# Altium integrated library Linear Technology Power Management uModule Regulators.IntLib: 166 symbols (part 2 of 67)
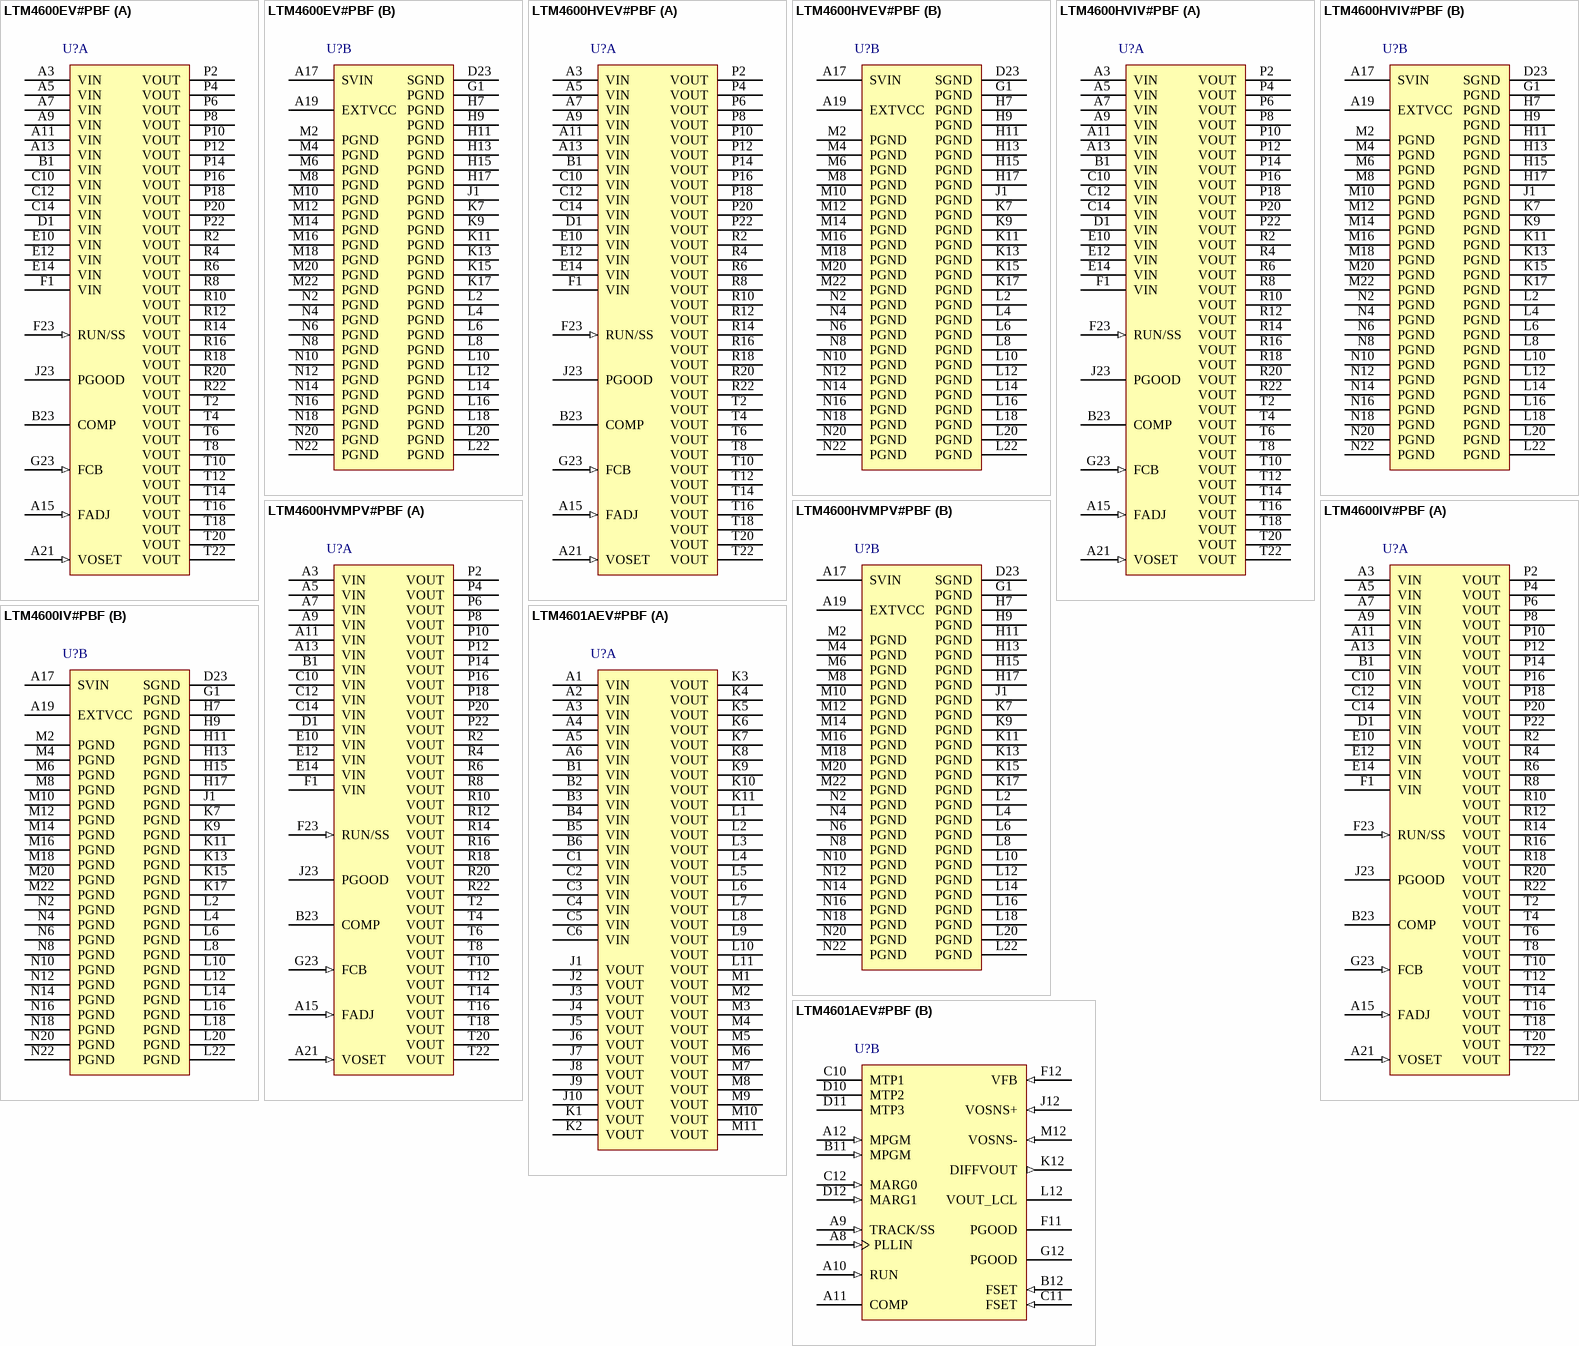
[diagram p28: symbols LTM4600EV#PBF to LTM4601AEV#PBF]

## LTM4600HVMPV#PBF
designator U?
10 A, 28 VIN High Efficiency DC/DC uModule, 104-pin LGA, -55 to 125 degC, Pb-Free; Manufacturer: Linear Technology; PartNumber: LTM4600HVMPV#PBF; Extended Temp: E, I, MP; Frequency(kHz): 850; Ishutdown(uA): 35; Isupply(mA): 1.2; Number of Outputs: 1; Output Current(A): 10; Switch Current(A): 14; Synchronous: yes; Topology: Buck; Tracking: no; Vin Max(V): 28; Vin Min(V): 4.5; Vout Max(V): 5; Vout Min(V): 0.6; DatasheetVersion: Rev. C; PackageVersion: Rev. C, 01/2013; PackageReference: LGA-104; PackageDescription: 104-Pin LGA, Body 15 x 15 mm, Pitch 1.27 mm; Supplier 1: Digi-Key; Supplier Part Number 1: LTM4600HVMPV#PBF-ND; Supplier 2: Farnell; Supplier Part Number 2: 1710864; Supplier 3: Newark; Supplier Part Number 3: 57M0653; RoHS: TRUE; Mounting Technology: Surface Mount; Code_JEDEC: MO-222; ComponentLink1Description: Manufacturer URL; ComponentLink1URL: http://www.linear.com/; ComponentLink2Description: Datasheet; ComponentLink2URL: http://cds.linear.com/docs/en/datasheet/4600hvfc.pdf; ComponentLink3Description: Package Specification; ComponentLink3URL: http://cds.linear.com/docs/en/packaging/05051800_C_lga104.pdf
footprint LT-LGA-104-15000X15000_V (LGA, 104-Leads, Body 15x15mm)
part A pins: A3 VIN (power) "Power Input Pins. Apply input voltage between these pins and GND pins. Recommend placing input decoupling capacitance directly between VIN pins and GND pins.", A5 VIN (power) "Power Input Pins. Apply input voltage between these pins and GND pins. Recommend placing input decoupling capacitance directly between VIN pins and GND pins.", A7 VIN (power) "Power Input Pins. Apply input voltage between these pins and GND pins. Recommend placing input decoupling capacitance directly between VIN pins and GND pins.", A9 VIN (power) "Power Input Pins. Apply input voltage between these pins and GND pins. Recommend placing input decoupling capacitance directly between VIN pins and GND pins.", A11 VIN (power) "Power Input Pins. Apply input voltage between these pins and GND pins. Recommend placing input decoupling capacitance directly between VIN pins and GND pins.", A13 VIN (power) "Power Input Pins. Apply input voltage between these pins and GND pins. Recommend placing input decoupling capacitance directly between VIN pins and GND pins.", A15 FADJ (in) "A 110k resistor from VIN to this pin sets the one-shot timer current, thereby setting the switching frequency. The LTM4600HV switching frequency is typically 850kHz. An external resistor to ground can be selected to reduce (See Datasheet)", A21 VOSET (in) "The Negative Input of The Error Amplifier. Internally, this pin is connected to VOUT with a 100k precision resistor. Different output voltages can be programmed with additional resistors between the VOSET and SGND pins.", B1 VIN (power) "Power Input Pins. Apply input voltage between these pins and GND pins. Recommend placing input decoupling capacitance directly between VIN pins and GND pins.", B23 COMP "Current Control Threshold and Error Amplifier Compensation Point. The current comparator threshold increases with this control voltage. The voltage ranges from 0V to 2.4V with 0.8V corresponding to zero sense voltage (zero (See Datasheet)", C10 VIN (power) "Power Input Pins. Apply input voltage between these pins and GND pins. Recommend placing input decoupling capacitance directly between VIN pins and GND pins.", C12 VIN (power) "Power Input Pins. Apply input voltage between these pins and GND pins. Recommend placing input decoupling capacitance directly between VIN pins and GND pins.", C14 VIN (power) "Power Input Pins. Apply input voltage between these pins and GND pins. Recommend placing input decoupling capacitance directly between VIN pins and GND pins.", D1 VIN (power) "Power Input Pins. Apply input voltage between these pins and GND pins. Recommend placing input decoupling capacitance directly between VIN pins and GND pins.", E10 VIN (power) "Power Input Pins. Apply input voltage between these pins and GND pins. Recommend placing input decoupling capacitance directly between VIN pins and GND pins.", E12 VIN (power) "Power Input Pins. Apply input voltage between these pins and GND pins. Recommend placing input decoupling capacitance directly between VIN pins and GND pins.", E14 VIN (power) "Power Input Pins. Apply input voltage between these pins and GND pins. Recommend placing input decoupling capacitance directly between VIN pins and GND pins.", F1 VIN (power) "Power Input Pins. Apply input voltage between these pins and GND pins. Recommend placing input decoupling capacitance directly between VIN pins and GND pins.", F23 RUN/SS (in) "Run and Soft-Start Control. Forcing this pin below 0.8V will shut down the power supply. Inside the power module, there is a 1000pF capacitor which provides approximately 0.7ms soft-start time with 200uF output capacitance. (See Datasheet)", G23 FCB (in) "Forced Continuous Input. Grounding this pin enables forced continuous mode operation regardless of load conditions. Tying this pin above 0.63V enables discontinuous conduction mode to achieve high efficiency operation at (See Datasheet)", J23 PGOOD (oc) "Output Voltage Power Good Indicator. When the output voltage is within 10% of the nominal voltage, the PGOOD is open drain output. Otherwise, this pin is pulled to ground.", P2 VOUT (power) "Power Output Pins. Apply output load between these pins and GND pins. Recommend placing High Frequency output decoupling capacitance directly between these pins and GND pins", P4 VOUT (power) "Power Output Pins. Apply output load between these pins and GND pins. Recommend placing High Frequency output decoupling capacitance directly between these pins and GND pins", P6 VOUT (power) "Power Output Pins. Apply output load between these pins and GND pins. Recommend placing High Frequency output decoupling capacitance directly between these pins and GND pins", P8 VOUT (power) "Power Output Pins. Apply output load between these pins and GND pins. Recommend placing High Frequency output decoupling capacitance directly between these pins and GND pins", P10 VOUT (power) "Power Output Pins. Apply output load between these pins and GND pins. Recommend placing High Frequency output decoupling capacitance directly between these pins and GND pins", P12 VOUT (power) "Power Output Pins. Apply output load between these pins and GND pins. Recommend placing High Frequency output decoupling capacitance directly between these pins and GND pins", P14 VOUT (power) "Power Output Pins. Apply output load between these pins and GND pins. Recommend placing High Frequency output decoupling capacitance directly between these pins and GND pins", P16 VOUT (power) "Power Output Pins. Apply output load between these pins and GND pins. Recommend placing High Frequency output decoupling capacitance directly between these pins and GND pins", P18 VOUT (power) "Power Output Pins. Apply output load between these pins and GND pins. Recommend placing High Frequency output decoupling capacitance directly between these pins and GND pins", P20 VOUT (power) "Power Output Pins. Apply output load between these pins and GND pins. Recommend placing High Frequency output decoupling capacitance directly between these pins and GND pins", P22 VOUT (power) "Power Output Pins. Apply output load between these pins and GND pins. Recommend placing High Frequency output decoupling capacitance directly between these pins and GND pins", R2 VOUT (power) "Power Output Pins. Apply output load between these pins and GND pins. Recommend placing High Frequency output decoupling capacitance directly between these pins and GND pins", R4 VOUT (power) "Power Output Pins. Apply output load between these pins and GND pins. Recommend placing High Frequency output decoupling capacitance directly between these pins and GND pins", R6 VOUT (power) "Power Output Pins. Apply output load between these pins and GND pins. Recommend placing High Frequency output decoupling capacitance directly between these pins and GND pins", R8 VOUT (power) "Power Output Pins. Apply output load between these pins and GND pins. Recommend placing High Frequency output decoupling capacitance directly between these pins and GND pins", R10 VOUT (power) "Power Output Pins. Apply output load between these pins and GND pins. Recommend placing High Frequency output decoupling capacitance directly between these pins and GND pins", R12 VOUT (power) "Power Output Pins. Apply output load between these pins and GND pins. Recommend placing High Frequency output decoupling capacitance directly between these pins and GND pins", R14 VOUT (power) "Power Output Pins. Apply output load between these pins and GND pins. Recommend placing High Frequency output decoupling capacitance directly between these pins and GND pins", R16 VOUT (power) "Power Output Pins. Apply output load between these pins and GND pins. Recommend placing High Frequency output decoupling capacitance directly between these pins and GND pins", R18 VOUT (power) "Power Output Pins. Apply output load between these pins and GND pins. Recommend placing High Frequency output decoupling capacitance directly between these pins and GND pins", R20 VOUT (power) "Power Output Pins. Apply output load between these pins and GND pins. Recommend placing High Frequency output decoupling capacitance directly between these pins and GND pins", R22 VOUT (power) "Power Output Pins. Apply output load between these pins and GND pins. Recommend placing High Frequency output decoupling capacitance directly between these pins and GND pins", T2 VOUT (power) "Power Output Pins. Apply output load between these pins and GND pins. Recommend placing High Frequency output decoupling capacitance directly between these pins and GND pins", T4 VOUT (power) "Power Output Pins. Apply output load between these pins and GND pins. Recommend placing High Frequency output decoupling capacitance directly between these pins and GND pins", T6 VOUT (power) "Power Output Pins. Apply output load between these pins and GND pins. Recommend placing High Frequency output decoupling capacitance directly between these pins and GND pins", T8 VOUT (power) "Power Output Pins. Apply output load between these pins and GND pins. Recommend placing High Frequency output decoupling capacitance directly between these pins and GND pins", T10 VOUT (power) "Power Output Pins. Apply output load between these pins and GND pins. Recommend placing High Frequency output decoupling capacitance directly between these pins and GND pins", T12 VOUT (power) "Power Output Pins. Apply output load between these pins and GND pins. Recommend placing High Frequency output decoupling capacitance directly between these pins and GND pins", T14 VOUT (power) "Power Output Pins. Apply output load between these pins and GND pins. Recommend placing High Frequency output decoupling capacitance directly between these pins and GND pins", T16 VOUT (power) "Power Output Pins. Apply output load between these pins and GND pins. Recommend placing High Frequency output decoupling capacitance directly between these pins and GND pins", T18 VOUT (power) "Power Output Pins. Apply output load between these pins and GND pins. Recommend placing High Frequency output decoupling capacitance directly between these pins and GND pins", T20 VOUT (power) "Power Output Pins. Apply output load between these pins and GND pins. Recommend placing High Frequency output decoupling capacitance directly between these pins and GND pins", T22 VOUT (power) "Power Output Pins. Apply output load between these pins and GND pins. Recommend placing High Frequency output decoupling capacitance directly between these pins and GND pins"
part B pins: A17 SVIN (power) "Supply Pin for Internal PWM Controller. Leave this pin open or add additional decoupling capacitance.", A19 EXTVCC (power) "External 5V supply pin for controller. If left open or grounded, the internal 5V linear regulator will power the controller and MOSFET drivers. For high input voltage applications, connecting this pin to an external 5V will (See Datasheet)", D23 SGND (power) "Signal Ground Pin. All small-signal components should connect to this ground, which in turn connects to PGND at one point.", G1 PGND (power) "Power ground pins for both input and output returns.", H7 PGND (power) "Power ground pins for both input and output returns.", H9 PGND (power) "Power ground pins for both input and output returns.", H11 PGND (power) "Power ground pins for both input and output returns.", H13 PGND (power) "Power ground pins for both input and output returns.", H15 PGND (power) "Power ground pins for both input and output returns.", H17 PGND (power) "Power ground pins for both input and output returns.", J1 PGND (power) "Power ground pins for both input and output returns.", K7 PGND (power) "Power ground pins for both input and output returns.", K9 PGND (power) "Power ground pins for both input and output returns.", K11 PGND (power) "Power ground pins for both input and output returns.", K13 PGND (power) "Power ground pins for both input and output returns.", K15 PGND (power) "Power ground pins for both input and output returns.", K17 PGND (power) "Power ground pins for both input and output returns.", L2 PGND (power) "Power ground pins for both input and output returns.", L4 PGND (power) "Power ground pins for both input and output returns.", L6 PGND (power) "Power ground pins for both input and output returns.", L8 PGND (power) "Power ground pins for both input and output returns.", L10 PGND (power) "Power ground pins for both input and output returns.", L12 PGND (power) "Power ground pins for both input and output returns.", L14 PGND (power) "Power ground pins for both input and output returns.", L16 PGND (power) "Power ground pins for both input and output returns.", L18 PGND (power) "Power ground pins for both input and output returns.", L20 PGND (power) "Power ground pins for both input and output returns.", L22 PGND (power) "Power ground pins for both input and output returns.", M2 PGND (power) "Power ground pins for both input and output returns.", M4 PGND (power) "Power ground pins for both input and output returns.", M6 PGND (power) "Power ground pins for both input and output returns.", M8 PGND (power) "Power ground pins for both input and output returns.", M10 PGND (power) "Power ground pins for both input and output returns.", M12 PGND (power) "Power ground pins for both input and output returns.", M14 PGND (power) "Power ground pins for both input and output returns.", M16 PGND (power) "Power ground pins for both input and output returns.", M18 PGND (power) "Power ground pins for both input and output returns.", M20 PGND (power) "Power ground pins for both input and output returns.", M22 PGND (power) "Power ground pins for both input and output returns.", N2 PGND (power) "Power ground pins for both input and output returns.", N4 PGND (power) "Power ground pins for both input and output returns.", N6 PGND (power) "Power ground pins for both input and output returns.", N8 PGND (power) "Power ground pins for both input and output returns.", N10 PGND (power) "Power ground pins for both input and output returns.", N12 PGND (power) "Power ground pins for both input and output returns.", N14 PGND (power) "Power ground pins for both input and output returns.", N16 PGND (power) "Power ground pins for both input and output returns.", N18 PGND (power) "Power ground pins for both input and output returns.", N20 PGND (power) "Power ground pins for both input and output returns.", N22 PGND (power) "Power ground pins for both input and output returns."

## LTM4600IV#PBF
designator U?
10 A High Efficiency DC/DC uModule, 104-pin LGA, -40 to 85 degC, Pb-Free; Manufacturer: Linear Technology; PartNumber: LTM4600IV#PBF; Extended Temp: E, I; Frequency(kHz): 800; Ishutdown(uA): 35; Isupply(mA): 1.2; Number of Outputs: 1; Output Current(A): 10; Switch Current(A): 14; Synchronous: yes; Topology: Buck; Tracking: no; Vin Max(V): 20; Vin Min(V): 4.5; Vout Max(V): 5; Vout Min(V): 0.6; DatasheetVersion: Rev. C; PackageVersion: Rev. C, 01/2013; PackageReference: LGA-104; PackageDescription: 104-Pin LGA, Body 15 x 15 mm, Pitch 1.27 mm; Supplier 1: Digi-Key; Supplier Part Number 1: LTM4600IV#PBF-ND; Supplier 2: Newark; Supplier Part Number 2: 57M0654; RoHS: TRUE; Mounting Technology: Surface Mount; Code_JEDEC: MO-222; ComponentLink1Description: Manufacturer URL; ComponentLink1URL: http://www.linear.com/; ComponentLink2Description: Datasheet; ComponentLink2URL: http://cds.linear.com/docs/en/datasheet/4600fc.pdf; ComponentLink3Description: Package Specification; ComponentLink3URL: http://cds.linear.com/docs/en/packaging/05051800_C_lga104.pdf
footprint LT-LGA-104-15000X15000_V (LGA, 104-Leads, Body 15x15mm)
part A pins: A3 VIN (power) "Power Input Pins. Apply input voltage between these pins and PGND pins. Recommend placing input decoupling capacitance directly between VIN pins and PGND pins.", A5 VIN (power) "Power Input Pins. Apply input voltage between these pins and PGND pins. Recommend placing input decoupling capacitance directly between VIN pins and PGND pins.", A7 VIN (power) "Power Input Pins. Apply input voltage between these pins and PGND pins. Recommend placing input decoupling capacitance directly between VIN pins and PGND pins.", A9 VIN (power) "Power Input Pins. Apply input voltage between these pins and PGND pins. Recommend placing input decoupling capacitance directly between VIN pins and PGND pins.", A11 VIN (power) "Power Input Pins. Apply input voltage between these pins and PGND pins. Recommend placing input decoupling capacitance directly between VIN pins and PGND pins.", A13 VIN (power) "Power Input Pins. Apply input voltage between these pins and PGND pins. Recommend placing input decoupling capacitance directly between VIN pins and PGND pins.", A15 FADJ (in) "A 110k resistor from VIN to this pin sets the one-shot timer current, thereby setting the switching frequency. The LTM4600 switching frequency is typically 850kHz. An external resistor to ground can be selected to reduce the (See Datasheet)", A21 VOSET (in) "The Negative Input of The Error Amplifier. Internally, this pin is connected to VOUT with a 100k precision resistor. Different output voltages can be programmed with additional resistors between the VOSET and SGND pins.", B1 VIN (power) "Power Input Pins. Apply input voltage between these pins and PGND pins. Recommend placing input decoupling capacitance directly between VIN pins and PGND pins.", B23 COMP "Current Control Threshold and Error Amplifier Compensation Point. The current comparator threshold increases with this control voltage. The voltage ranges from 0V to 2.4V with 0.8V corresponding to zero sense voltage (zero (See Datasheet)", C10 VIN (power) "Power Input Pins. Apply input voltage between these pins and PGND pins. Recommend placing input decoupling capacitance directly between VIN pins and PGND pins.", C12 VIN (power) "Power Input Pins. Apply input voltage between these pins and PGND pins. Recommend placing input decoupling capacitance directly between VIN pins and PGND pins.", C14 VIN (power) "Power Input Pins. Apply input voltage between these pins and PGND pins. Recommend placing input decoupling capacitance directly between VIN pins and PGND pins.", D1 VIN (power) "Power Input Pins. Apply input voltage between these pins and PGND pins. Recommend placing input decoupling capacitance directly between VIN pins and PGND pins.", E10 VIN (power) "Power Input Pins. Apply input voltage between these pins and PGND pins. Recommend placing input decoupling capacitance directly between VIN pins and PGND pins.", E12 VIN (power) "Power Input Pins. Apply input voltage between these pins and PGND pins. Recommend placing input decoupling capacitance directly between VIN pins and PGND pins.", E14 VIN (power) "Power Input Pins. Apply input voltage between these pins and PGND pins. Recommend placing input decoupling capacitance directly between VIN pins and PGND pins.", F1 VIN (power) "Power Input Pins. Apply input voltage between these pins and PGND pins. Recommend placing input decoupling capacitance directly between VIN pins and PGND pins.", F23 RUN/SS (in) "Run and Soft-Start Control. Forcing this pin below 0.8V will shut down the power supply. Inside the power module, there is a 1000pF capacitor which provides approximately 0.7ms soft-start time with 200uF output capacitance. (See Datasheet)", G23 FCB (in) "Forced Continuous Input. Grounding this pin enables forced continuous mode operation regardless of load conditions. Tying this pin above 0.63V enables discontinuous conduction mode to achieve high efficiency operation at (See Datasheet)", J23 PGOOD (oc) "Output Voltage Power Good Indicator. When the output voltage is within 10% of the nominal voltage, the PGOOD is open drain output. Otherwise, this pin is pulled to ground.", P2 VOUT (power) "Power Output Pins. Apply output load between these pins and PGND pins. Recommend placing High Frequency output decoupling capacitance directly between these pins and PGND pins.", P4 VOUT (power) "Power Output Pins. Apply output load between these pins and PGND pins. Recommend placing High Frequency output decoupling capacitance directly between these pins and PGND pins.", P6 VOUT (power) "Power Output Pins. Apply output load between these pins and PGND pins. Recommend placing High Frequency output decoupling capacitance directly between these pins and PGND pins.", P8 VOUT (power) "Power Output Pins. Apply output load between these pins and PGND pins. Recommend placing High Frequency output decoupling capacitance directly between these pins and PGND pins.", P10 VOUT (power) "Power Output Pins. Apply output load between these pins and PGND pins. Recommend placing High Frequency output decoupling capacitance directly between these pins and PGND pins.", P12 VOUT (power) "Power Output Pins. Apply output load between these pins and PGND pins. Recommend placing High Frequency output decoupling capacitance directly between these pins and PGND pins.", P14 VOUT (power) "Power Output Pins. Apply output load between these pins and PGND pins. Recommend placing High Frequency output decoupling capacitance directly between these pins and PGND pins.", P16 VOUT (power) "Power Output Pins. Apply output load between these pins and PGND pins. Recommend placing High Frequency output decoupling capacitance directly between these pins and PGND pins.", P18 VOUT (power) "Power Output Pins. Apply output load between these pins and PGND pins. Recommend placing High Frequency output decoupling capacitance directly between these pins and PGND pins.", P20 VOUT (power) "Power Output Pins. Apply output load between these pins and PGND pins. Recommend placing High Frequency output decoupling capacitance directly between these pins and PGND pins.", P22 VOUT (power) "Power Output Pins. Apply output load between these pins and PGND pins. Recommend placing High Frequency output decoupling capacitance directly between these pins and PGND pins.", R2 VOUT (power) "Power Output Pins. Apply output load between these pins and PGND pins. Recommend placing High Frequency output decoupling capacitance directly between these pins and PGND pins.", R4 VOUT (power) "Power Output Pins. Apply output load between these pins and PGND pins. Recommend placing High Frequency output decoupling capacitance directly between these pins and PGND pins.", R6 VOUT (power) "Power Output Pins. Apply output load between these pins and PGND pins. Recommend placing High Frequency output decoupling capacitance directly between these pins and PGND pins.", R8 VOUT (power) "Power Output Pins. Apply output load between these pins and PGND pins. Recommend placing High Frequency output decoupling capacitance directly between these pins and PGND pins.", R10 VOUT (power) "Power Output Pins. Apply output load between these pins and PGND pins. Recommend placing High Frequency output decoupling capacitance directly between these pins and PGND pins.", R12 VOUT (power) "Power Output Pins. Apply output load between these pins and PGND pins. Recommend placing High Frequency output decoupling capacitance directly between these pins and PGND pins.", R14 VOUT (power) "Power Output Pins. Apply output load between these pins and PGND pins. Recommend placing High Frequency output decoupling capacitance directly between these pins and PGND pins.", R16 VOUT (power) "Power Output Pins. Apply output load between these pins and PGND pins. Recommend placing High Frequency output decoupling capacitance directly between these pins and PGND pins.", R18 VOUT (power) "Power Output Pins. Apply output load between these pins and PGND pins. Recommend placing High Frequency output decoupling capacitance directly between these pins and PGND pins.", R20 VOUT (power) "Power Output Pins. Apply output load between these pins and PGND pins. Recommend placing High Frequency output decoupling capacitance directly between these pins and PGND pins.", R22 VOUT (power) "Power Output Pins. Apply output load between these pins and PGND pins. Recommend placing High Frequency output decoupling capacitance directly between these pins and PGND pins.", T2 VOUT (power) "Power Output Pins. Apply output load between these pins and PGND pins. Recommend placing High Frequency output decoupling capacitance directly between these pins and PGND pins.", T4 VOUT (power) "Power Output Pins. Apply output load between these pins and PGND pins. Recommend placing High Frequency output decoupling capacitance directly between these pins and PGND pins.", T6 VOUT (power) "Power Output Pins. Apply output load between these pins and PGND pins. Recommend placing High Frequency output decoupling capacitance directly between these pins and PGND pins.", T8 VOUT (power) "Power Output Pins. Apply output load between these pins and PGND pins. Recommend placing High Frequency output decoupling capacitance directly between these pins and PGND pins.", T10 VOUT (power) "Power Output Pins. Apply output load between these pins and PGND pins. Recommend placing High Frequency output decoupling capacitance directly between these pins and PGND pins.", T12 VOUT (power) "Power Output Pins. Apply output load between these pins and PGND pins. Recommend placing High Frequency output decoupling capacitance directly between these pins and PGND pins.", T14 VOUT (power) "Power Output Pins. Apply output load between these pins and PGND pins. Recommend placing High Frequency output decoupling capacitance directly between these pins and PGND pins.", T16 VOUT (power) "Power Output Pins. Apply output load between these pins and PGND pins. Recommend placing High Frequency output decoupling capacitance directly between these pins and PGND pins.", T18 VOUT (power) "Power Output Pins. Apply output load between these pins and PGND pins. Recommend placing High Frequency output decoupling capacitance directly between these pins and PGND pins.", T20 VOUT (power) "Power Output Pins. Apply output load between these pins and PGND pins. Recommend placing High Frequency output decoupling capacitance directly between these pins and PGND pins.", T22 VOUT (power) "Power Output Pins. Apply output load between these pins and PGND pins. Recommend placing High Frequency output decoupling capacitance directly between these pins and PGND pins."
part B pins: A17 SVIN (power) "Supply Pin for Internal PWM Controller. Leave this pin open or add additional decoupling capacitance.", A19 EXTVCC (power) "External 5V supply pin for controller. If left open or grounded, the internal 5V linear regulator will power the controller and MOSFET drivers. For high input voltage applications, connecting this pin to an external 5V will (See Datasheet)", D23 SGND (power) "Signal Ground Pin. All small-signal components should connect to this ground, which in turn connects to PGND at one point.", G1 PGND (power) "Power ground pins for both input and output returns.", H7 PGND (power) "Power ground pins for both input and output returns.", H9 PGND (power) "Power ground pins for both input and output returns.", H11 PGND (power) "Power ground pins for both input and output returns.", H13 PGND (power) "Power ground pins for both input and output returns.", H15 PGND (power) "Power ground pins for both input and output returns.", H17 PGND (power) "Power ground pins for both input and output returns.", J1 PGND (power) "Power ground pins for both input and output returns.", K7 PGND (power) "Power ground pins for both input and output returns.", K9 PGND (power) "Power ground pins for both input and output returns.", K11 PGND (power) "Power ground pins for both input and output returns.", K13 PGND (power) "Power ground pins for both input and output returns.", K15 PGND (power) "Power ground pins for both input and output returns.", K17 PGND (power) "Power ground pins for both input and output returns.", L2 PGND (power) "Power ground pins for both input and output returns.", L4 PGND (power) "Power ground pins for both input and output returns.", L6 PGND (power) "Power ground pins for both input and output returns.", L8 PGND (power) "Power ground pins for both input and output returns.", L10 PGND (power) "Power ground pins for both input and output returns.", L12 PGND (power) "Power ground pins for both input and output returns.", L14 PGND (power) "Power ground pins for both input and output returns.", L16 PGND (power) "Power ground pins for both input and output returns.", L18 PGND (power) "Power ground pins for both input and output returns.", L20 PGND (power) "Power ground pins for both input and output returns.", L22 PGND (power) "Power ground pins for both input and output returns.", M2 PGND (power) "Power ground pins for both input and output returns.", M4 PGND (power) "Power ground pins for both input and output returns.", M6 PGND (power) "Power ground pins for both input and output returns.", M8 PGND (power) "Power ground pins for both input and output returns.", M10 PGND (power) "Power ground pins for both input and output returns.", M12 PGND (power) "Power ground pins for both input and output returns.", M14 PGND (power) "Power ground pins for both input and output returns.", M16 PGND (power) "Power ground pins for both input and output returns.", M18 PGND (power) "Power ground pins for both input and output returns.", M20 PGND (power) "Power ground pins for both input and output returns.", M22 PGND (power) "Power ground pins for both input and output returns.", N2 PGND (power) "Power ground pins for both input and output returns.", N4 PGND (power) "Power ground pins for both input and output returns.", N6 PGND (power) "Power ground pins for both input and output returns.", N8 PGND (power) "Power ground pins for both input and output returns.", N10 PGND (power) "Power ground pins for both input and output returns.", N12 PGND (power) "Power ground pins for both input and output returns.", N14 PGND (power) "Power ground pins for both input and output returns.", N16 PGND (power) "Power ground pins for both input and output returns.", N18 PGND (power) "Power ground pins for both input and output returns.", N20 PGND (power) "Power ground pins for both input and output returns.", N22 PGND (power) "Power ground pins for both input and output returns."

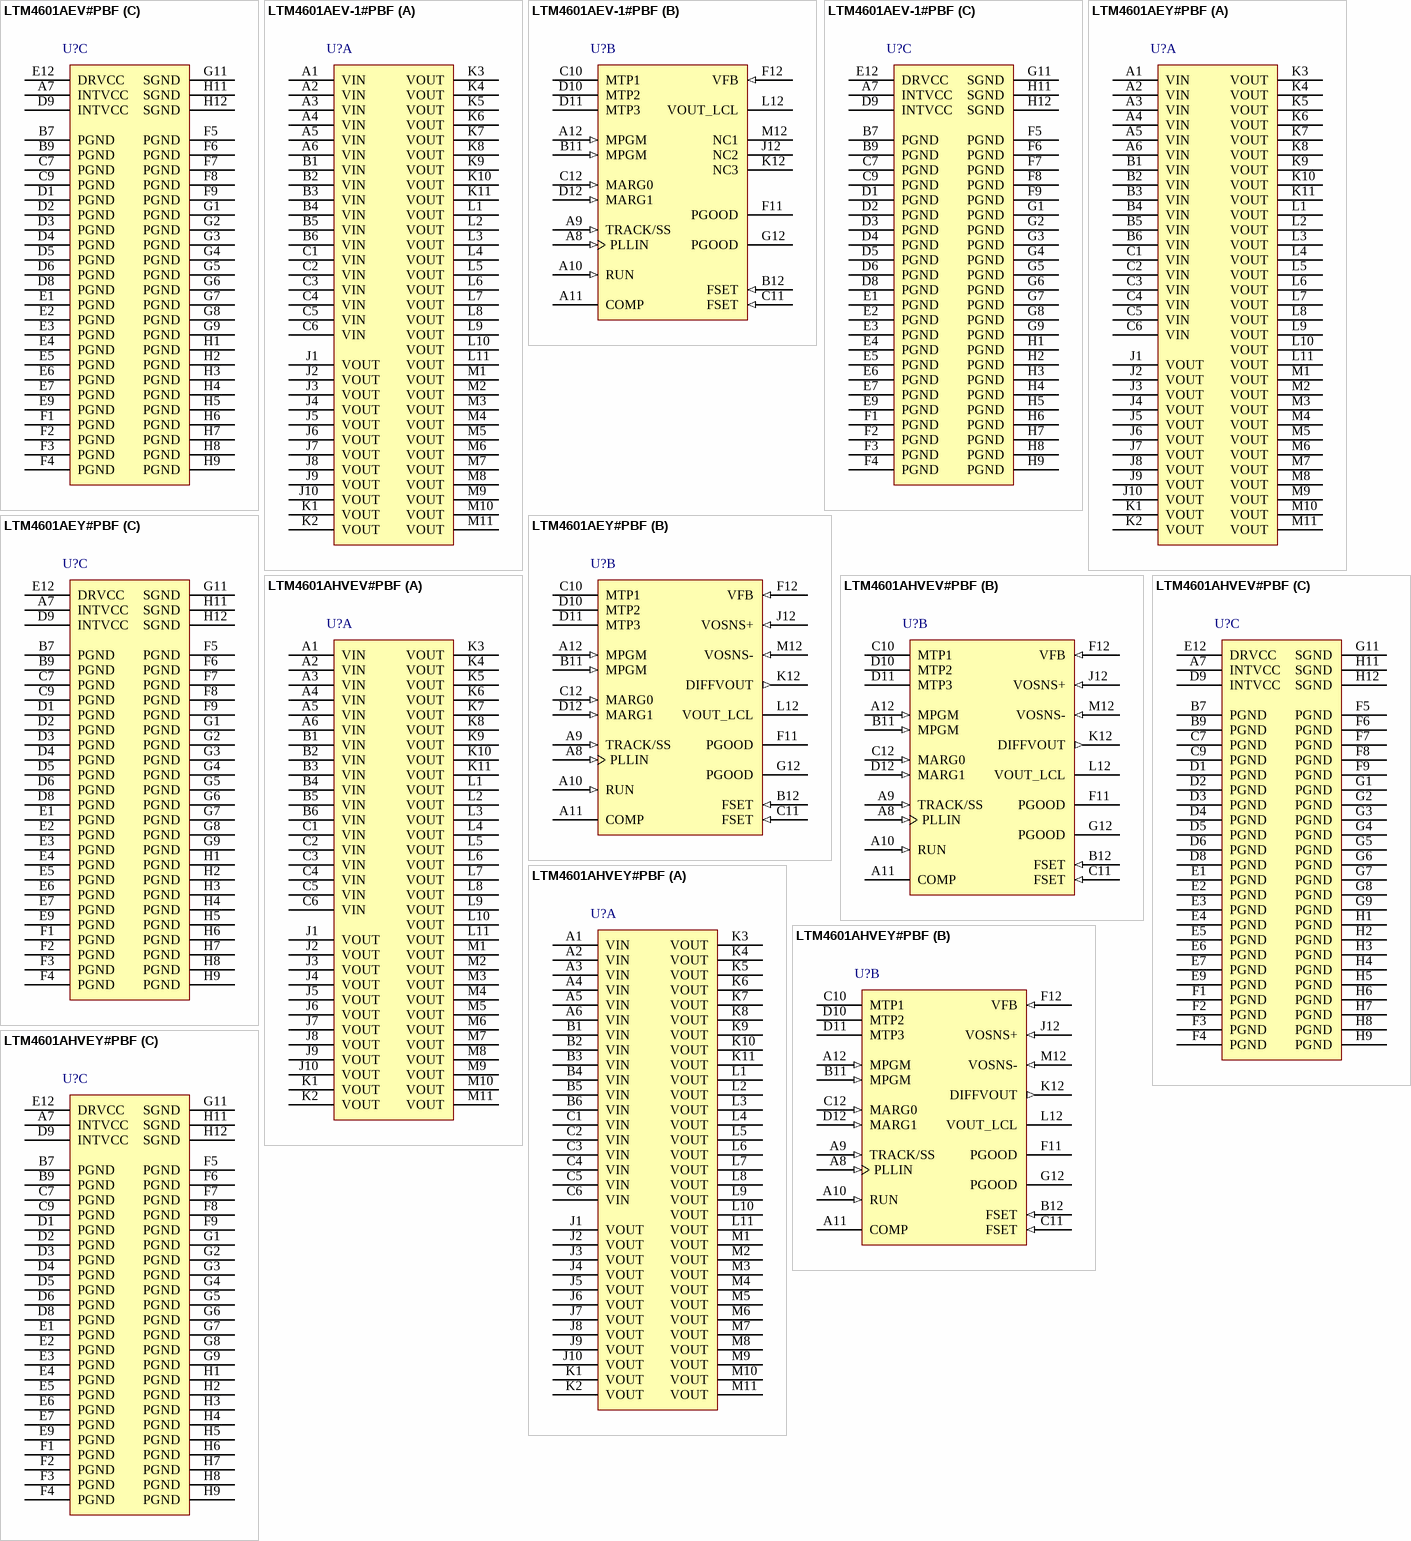
[diagram p1: symbols LTM4601AEV#PBF to LTM4601AHVEY#PBF]